# EAGLE library part VM1010 (library SparkFun-Sensors)
Vesper Technologies VM1010 The VM1010 is the world’s first ZeroPower ListeningTM piezoelectric MEMS microphone. It provides an ultra-low power always listening solution with a Wake on Sound mode that allows detection of voice activity.
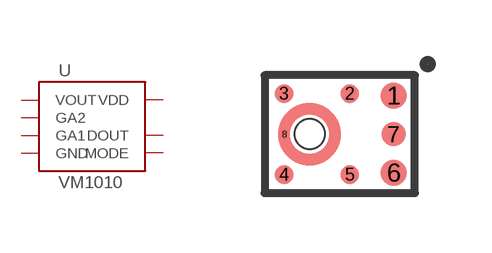
[diagram p25: symbol with the pads of VM1010; footprint VM1010]

Designator prefix -

## VM1010 (DIGIKEY_PART: 2022-1001-1-ND; MANU_PART: VM1010AA; PROD_ID: IC-15768)  [VM1010]
1  VOUT  out
2  GA2  in
3  GA1  in
4  GND  pwr
5  MODE  in
6  VDD  pwr
7  DOUT  out
8  GND  pwr

## Footprint VM1010 (pad centres in mm)
Vesper Technologies VM1010
smd 0.65 x 0.65: 1 1.35,0.965; 6 1.35,-0.965
smd 0.46 x 0.46: 2 0.25,1.015; 3 -1.39,1.015; 4 -1.39,-1.015; 5 0.25,-1.015
smd 0.6 x 0.6: 7 1.35,0
smd 0.25 x 0.25: 8 -1.38,0
hole 0.75 at -0.75,0